# Altium schematic symbol library polar cap.SchLib: 1 symbol
Pins are listed as number, name and electrical type; pins without a type are passive.

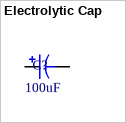
[diagram p0: symbol Electrolytic Cap]

## Electrolytic Cap
designator C?, comment value 100uF  (hidden comment: Cap)
Electrolytic Cap; Manufacturer Part No.: UWT1V101MCL1GS; Vmax: 35V; Digi-Key Part No.: 493-2203-1-ND
footprint aluminum electrolytic (6.3x7.7, 100uF, 35V aluminum electrolytic cap)
footprint Aluminum Electrolytic Short (6.3x5.8mm, 100uF, 35V aluminum electrolytic cap)
pins: 1, 2